# EAGLE library part AMP_LATCH_14 (library SolarJackets_Common)
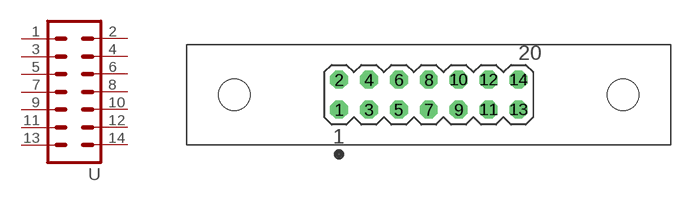
[diagram p13: symbol with the pads of MA14-2; footprint MA14-2]

Designator prefix -

## AMP_LATCH_14  [MA14-2]
1  7  pas
2  8  pas
3  9  pas
4  10  pas
5  11  pas
6  12  pas
7  13  pas
8  14  pas
9  15  pas
10  16  pas
11  17  pas
12  18  pas
13  19  pas
14  20  pas

## Footprint MA14-2 (pad centres in mm)
drill 1.016 octagon: 1 -11.43,-1.27; 2 -11.43,1.27; 3 -8.89,-1.27; 4 -8.89,1.27; 5 -6.35,-1.27; 6 -6.35,1.27; 7 -3.81,-1.27; 8 -3.81,1.27; 9 -1.27,-1.27; 10 -1.27,1.27; 11 1.27,-1.27; 12 1.27,1.27; 13 3.81,-1.27; 14 3.81,1.27
hole 2.692 at -20.32,0
hole 2.692 at 12.7,0